# Altium footprint library Switches-relays.PcbLib: 71 footprints (part 3 of 5)
Each footprint in its own frame and in the unit in brackets; x right, y up, seen from the top. Pads: shape width x height; smd on the part's side, far side on the other; paste and mask are expansions set on the pad; w line width, h text height; cw(c..) or ccw(c..) is an arc to the next point about the centre after c.
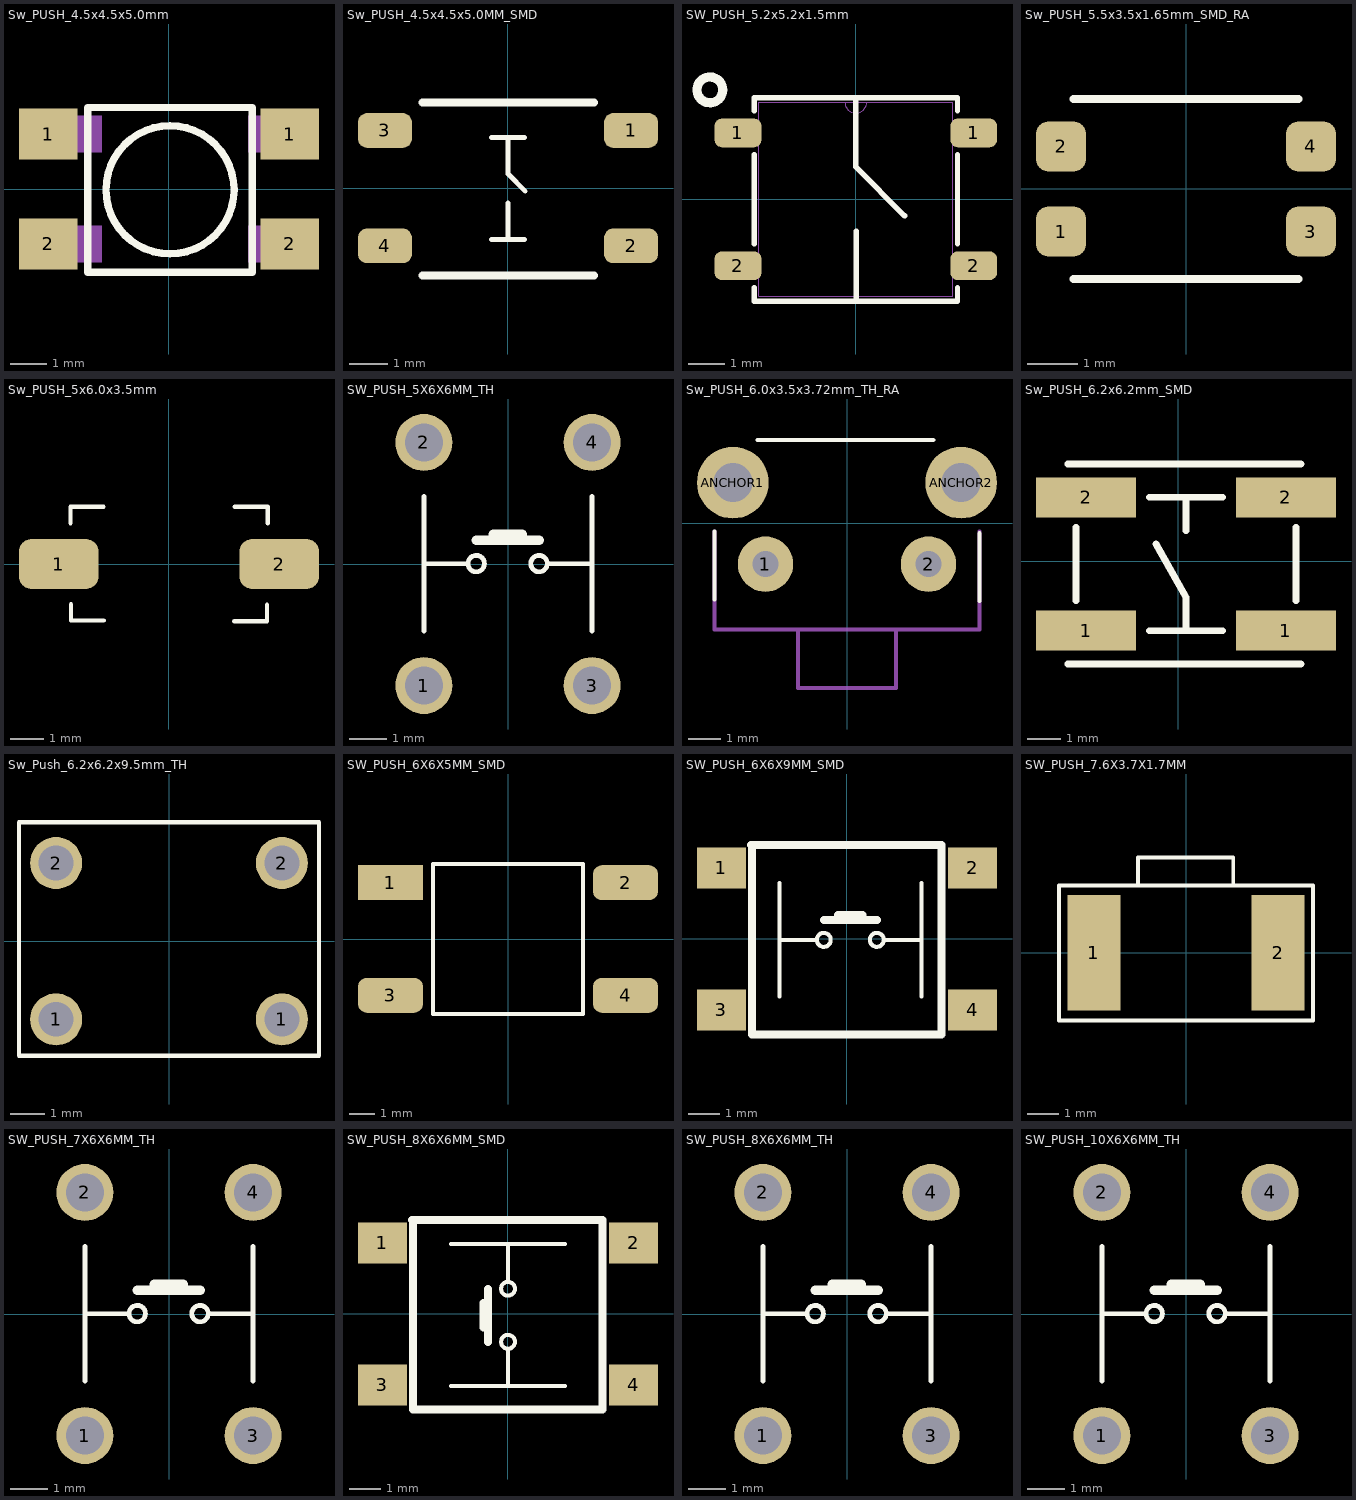
[diagram p2: the footprints below, top view; thin cyan lines are the x and y axes]

## Sw_PUSH_4.5x4.5x5.0mm [mm] "/20210713M-C.Calderon"
pads (4):
  rect 1.6x1.4 smd: 1(-3.3,1.5) 1(3.3,1.5) 2(-3.3,-1.5) 2(3.3,-1.5)
Top Overlay:
  circle w0.203: c0.028,-0.022 r1.75
  lines w0.203: -2.222,-2.272 -2.222,2.228 2.278,2.228 2.278,-2.272 -2.222,-2.272
Mechanical 19:
  region: 3.66,1 3.66,2 2.16,2 2.16,1
  region: 3.66,-2 3.66,-1 2.16,-1 2.16,-2
  region: -3.34,2 -3.34,1 -1.84,1 -1.84,2
  region: -3.34,-1 -3.34,-2 -1.84,-2 -1.84,-1
3D body "PTS647SN50SMTR2LFS.stp": height 5.02, standoff 0.01, extent -3.222,-2.272 3.278,2.23

## Sw_PUSH_4.5x4.5x5.0MM_SMD [mm] "/20210803/C-D Viveros"
pads (4):
  rrect50% 1.4x0.9 smd: 1(3.2,1.5) 2(3.2,-1.5) 3(-3.2,1.5) 4(-3.2,-1.5)
Top Overlay:
  lines w0.127: -0.425,-1.33 0.425,-1.33 ; -0.425,1.32 0.425,1.32 ; 0,-1.33 0,-0.38 ; 0,1.32 0,0.37 0.45,-0.08
  lines w0.203: -2.222,-2.272 2.24,-2.272 ; -2.222,2.228 2.24,2.228
3D body "PTS647SN50SMTR2LFS.stp": height 5.02, standoff 0.01, extent -3.222,-2.272 3.278,2.23

## SW_PUSH_5.2x5.2x1.5mm [mm] "/20210512/J-E.Pachon"
pads (4):
  rrect50% 1.3x0.8 smd: 1(-3.282,1.85) 1(3.282,1.85) 2(-3.282,-1.85) 2(3.282,-1.85)
Top Overlay:
  circle w0.254: c-4.064,3.048 r0.359
  lines w0.152: -2.832,-2.462 -2.832,-2.832 2.832,-2.832 2.832,-2.462 ; -2.832,-1.238 -2.832,1.238 ; -2.832,2.462 -2.832,2.832 2.832,2.832 2.832,2.462 ; 0,2.832 0,0.9 1.36,-0.46 ; 0.012,-2.819 0.012,-0.887 ; 2.832,-1.238 2.832,1.238
Mechanical 1:
  lines w0: -0.305,2.705 ccw(c0,2.705) 0.305,2.705
  lines w0.025: -3.3,-2.104 -2.705,-2.104 -2.705,-1.596 -3.3,-1.596 -3.3,-2.104 ; -3.3,1.596 -2.705,1.596 -2.705,2.104 -3.3,2.104 -3.3,1.596 ; -2.705,-2.705 2.705,-2.705 2.705,2.705 -2.705,2.705 -2.705,-2.705 ; 2.705,-2.104 3.3,-2.104 3.3,-1.596 2.705,-1.596 2.705,-2.104 ; 2.705,1.596 3.3,1.596 3.3,2.104 2.705,2.104 2.705,1.596
3D body: height 0.25, standoff 0, extent 0,0 0.254,0.254
3D body "SON4_PTS526SM15SMTR2LFS_CNK.step": height 1.6, standoff 0, extent -3.3,-2.705 3.3,2.705

## Sw_PUSH_5.5x3.5x1.65mm_SMD_RA [mm] "/20210622/C-D Viveros"
pads (4):
  rrect50% 1x1 smd: 1(-2.5,-0.85) 2(-2.5,0.85) 3(2.5,-0.85) 4(2.5,0.85)
Top Overlay:
  lines w0.152: -2.25,-1.8 2.25,-1.8 ; -2.25,1.8 2.25,1.8
3D body: height 1.65, standoff 0, extent -2.25,-1.75 2.25,1.75
3D body: height 1.65, standoff 0, extent -1.3,-1.75 1.3,2.75

## Sw_PUSH_5x6.0x3.5mm [mil] "/ 20190222 / N-A.Potosi"
pads (2):
  rrect50% 95x60 smd: 1(-131.89,0) 2(131.89,0)
Top Overlay:
  lines w5: -117.72,48.82 -117.72,68.5 -78.35,68.5 ; -117.32,-48.03 -117.32,-67.72 -77.95,-67.72 ; 77.95,-68.5 117.32,-68.5 117.32,-48.82 ; 78.74,68.5 118.11,68.5 118.11,48.82
3D body: height 137.8, standoff 0, extent -79.72,-44.29 79.72,49.21
3D body: height 98.43, standoff 0, extent -118.11,-68.9 118.11,68.9

## SW_PUSH_5X6X6MM_TH [mil] "/ 20220420 / A-F. Romo"
pads (4):
  round 60 hole 40: 1(-88.58,-127.95) 2(-88.58,127.95) 3(88.58,-127.95) 4(88.58,127.95)
Top Overlay:
  circle w5: c32.68,0.39 r8.66
  circle w5: c-33.46,0.39 r8.66
  lines w5: -88.58,-70.47 -88.58,71.26 ; -88.58,0.39 -42.13,0.39 ; 41.34,0.39 88.58,0.39 ; 88.58,-70.47 88.58,71.26
  lines w10: -33.46,25.2 32.68,25.2 ; -15.55,31.1 14.76,31.1 ; -13.39,26.38 -13.39,31.1
3D body "CUI_DEVICES_TS02-66-50-BK-260-LCR-D.step": height 196.85, standoff -137.8, extent -118.5,-155.11 117.72,155.91

## Sw_PUSH_6.0x3.5x3.72mm_TH_RA [mil] "/ 20210831 / N-A.Potosi"
pads (4):
  round 66.93 / inner round 0 / far side round 66.93 hole 31.5: 1(-98.43,-49.22) 2(98.43,-49.22)
  round 86.61 / inner round 0 / far side round 86.61 hole 47.24: ANCHOR1(-137.8,49.22) ANCHOR2(137.8,49.22)
Top Overlay:
  lines w5: -160,-91.68 -160,-9.85 ; -108.11,100.82 104.06,100.82 ; 160,-93.66 160,-11.83
Mechanical 1:
  lines w5: -160,-9.85 -160,-127.95 -59.06,-127.95 ; 160,-9.85 160,-127.95 59.06,-127.95 ; -59.06,-127.95 59.06,-127.95 ; -59.06,-127.95 -59.06,-198.82 59.06,-198.82 59.06,-127.95
3D body "Switch_Apem_Inc_MJTP1117_eec.STEP": height 169.29, standoff -98.43, extent -156.6,-195.67 156.62,93.7

## Sw_PUSH_6.2x6.2mm_SMD [mm] "/20230904/J-E.Pachon"
pads (4):
  rect 3x1.2 smd: 1(-2.76,-2.08) 1(3.24,-2.08) 2(-2.76,1.92) 2(3.24,1.92)
Top Overlay:
  lines w0.2: -3.31,-3.08 3.689,-3.08 ; -3.31,2.92 3.689,2.92 ; -3.061,-1.18 -3.061,1.02 ; 3.54,-1.18 3.54,1.02
  lines w0.203: -0.86,-2.08 1.34,-2.08 ; -0.86,1.92 1.34,1.92 ; -0.66,0.52 0.24,-1.08 0.24,-2.08 ; 0.24,0.92 0.24,1.92
3D body "User Library-KSC241J.STEP": height 3.48, standoff -0.02, extent -3.161,-3.18 3.639,3.02

## Sw_Push_6.2x6.2x9.5mm_TH [mm] "/20220804/J-E.Pachon"
pads (4):
  round 1.5 hole 1: 1(-3.25,-2.25) 1(3.25,-2.25) 2(-3.25,2.25) 2(3.25,2.25)
Top Overlay:
  lines w0.127: -4.318,-3.302 -4.318,3.429 4.318,3.429 4.318,-3.302 -4.318,-3.302
3D body "430156095726_Download_STP_430156095726_rev1.stp": height 9.5, standoff -3.5, extent -3.947,-3.1 3.947,3.1

## SW_PUSH_6X6X5MM_SMD [mm] "/20220503/V-A.Patino"
pads (4):
  rect 2.6x1.4 smd: 1(-4.7,2.25)
  rrect50% 2.6x1.4 smd: 2(4.7,2.25) 3(-4.7,-2.25) 4(4.7,-2.25)
Top Overlay:
  lines w0.152: -3,-3 -3,3 3,3 3,-3 -3,-3
3D body: height 5, standoff 0, extent -1.75,-1.75 1.75,1.75
3D body: height 3.3, standoff 0, extent -3,-3 3,3

## SW_PUSH_6X6X9MM_SMD [mm] "/20210826/M-C.Calderon"
pads (4):
  rect 1.55x1.3 smd: 1(-3.975,2.25) 2(3.975,2.25) 3(-3.975,-2.25) 4(3.975,-2.25)
Top Overlay:
  circle w0.127: c-0.735,-0.03 r0.22
  circle w0.127: c0.945,-0.03 r0.22
  lines w0.127: -2.135,-1.83 -2.135,1.77 ; -2.135,-0.03 -0.955,-0.03 ; 1.165,-0.03 2.365,-0.03 ; 2.365,-1.83 2.365,1.77
  lines w0.254: -3.035,2.97 2.965,2.97 ; -3.005,2.97 -3.005,-3.03 2.995,-3.03 2.995,2.97 ; -0.735,0.6 0.945,0.6 ; -0.28,0.75 0.49,0.75 ; -0.225,0.63 -0.225,0.75
3D body "User Library-PTS645SL95SMTR92-LFS.STEP": height 9.5, standoff 0, extent -4.375,-3.12 4.625,2.88

## SW_PUSH_7.6X3.7X1.7MM [mm] "20220517 / E.Naranjo"
pads (2):
  rect 1.7x3.7 smd: 1(-2.95,0) 2(2.95,0)
Top Overlay:
  lines w0.127: -1.536,2.159 -1.536,3.048 1.512,3.048 1.512,2.159 ; -4.064,-2.159 4.064,-2.159 4.064,2.159 -4.064,2.159 -4.064,-2.159
3D body "KSS241GLFS.stp": height 1.66, standoff 0.01, extent -3.5,-1.76 3.5,2.65

## SW_PUSH_7X6X6MM_TH [mil] "/ 20210112/ C-D Viveros"
pads (4):
  round 60 hole 40: 1(-88.58,-127.95) 2(-88.58,127.95) 3(88.58,-127.95) 4(88.58,127.95)
Top Overlay:
  circle w5: c-33.46,0.39 r8.66
  circle w5: c32.68,0.39 r8.66
  lines w5: -88.58,-70.47 -88.58,71.26 ; -88.58,0.39 -42.13,0.39 ; 41.34,0.39 88.58,0.39 ; 88.58,-70.47 88.58,71.26
  lines w10: -33.46,25.2 32.68,25.2 ; -15.55,31.1 14.76,31.1 ; -13.39,26.38 -13.39,31.1
3D body "TS6-THT_H-7.0.step": height 276.77, standoff -136.61, extent -118.5,-155.12 117.72,155.9

## SW_PUSH_8X6X6MM_SMD [mm] "/20221123/N-A.potosi"
pads (4):
  rect 1.55x1.3 smd: 1(-3.975,2.25) 2(3.975,2.25) 3(-3.975,-2.25) 4(3.975,-2.25)
Top Overlay:
  circle w0.127: c0,-0.884 r0.22
  circle w0.127: c0,0.796 r0.22
  lines w0.127: -1.8,-2.284 1.8,-2.284 ; -1.8,2.216 1.8,2.216 ; 0,-2.284 0,-1.104 ; 0,1.016 0,2.216
  lines w0.254: -3.035,2.97 2.965,2.97 ; -3.005,2.97 -3.005,-3.03 2.995,-3.03 2.995,2.97 ; -0.78,-0.429 -0.78,0.341 ; -0.78,-0.374 -0.66,-0.374 ; -0.63,-0.884 -0.63,0.796
3D body "Tactal Switch - SMD (6mmx 6mmx 8mm) - Marked.stp": height 8, standoff 0, extent -4.403,-3.076 4.614,2.956

## SW_PUSH_8X6X6MM_TH [mil] "/ 20210429/ M-C.Calderon"
pads (4):
  round 60 hole 40: 1(-88.58,-127.95) 2(-88.58,127.95) 3(88.58,-127.95) 4(88.58,127.95)
Top Overlay:
  circle w5: c-33.46,0.39 r8.66
  circle w5: c32.68,0.39 r8.66
  lines w5: -88.58,-70.47 -88.58,71.26 ; -88.58,0.39 -42.13,0.39 ; 41.34,0.39 88.58,0.39 ; 88.58,-70.47 88.58,71.26
  lines w10: -33.46,25.2 32.68,25.2 ; -15.55,31.1 14.76,31.1 ; -13.39,26.38 -13.39,31.1
3D body "1301.9305_3.STEP": height 315.46, standoff -137.29, extent -119.29,-153.04 116.93,146.01

## SW_PUSH_10X6X6MM_TH [mil] "/ 20220420 / A-F. Romo"
pads (4):
  round 60 hole 40: 1(-88.58,-127.95) 2(-88.58,127.95) 3(88.58,-127.95) 4(88.58,127.95)
Top Overlay:
  circle w5: c32.68,0.39 r8.66
  circle w5: c-33.46,0.39 r8.66
  lines w5: -88.58,-70.47 -88.58,71.26 ; -88.58,0.39 -42.13,0.39 ; 41.34,0.39 88.58,0.39 ; 88.58,-70.47 88.58,71.26
  lines w10: -33.46,25.2 32.68,25.2 ; -15.55,31.1 14.76,31.1 ; -13.39,26.38 -13.39,31.1
3D body "CUI_DEVICES_TS02-66-100-BK-160-LCR-D.step": height 393.7, standoff -137.8, extent -118.5,-155.11 117.71,155.91